# Altium schematic symbol library nRF52-Intro.SCHLIB: 84 symbols (part 2 of 2)
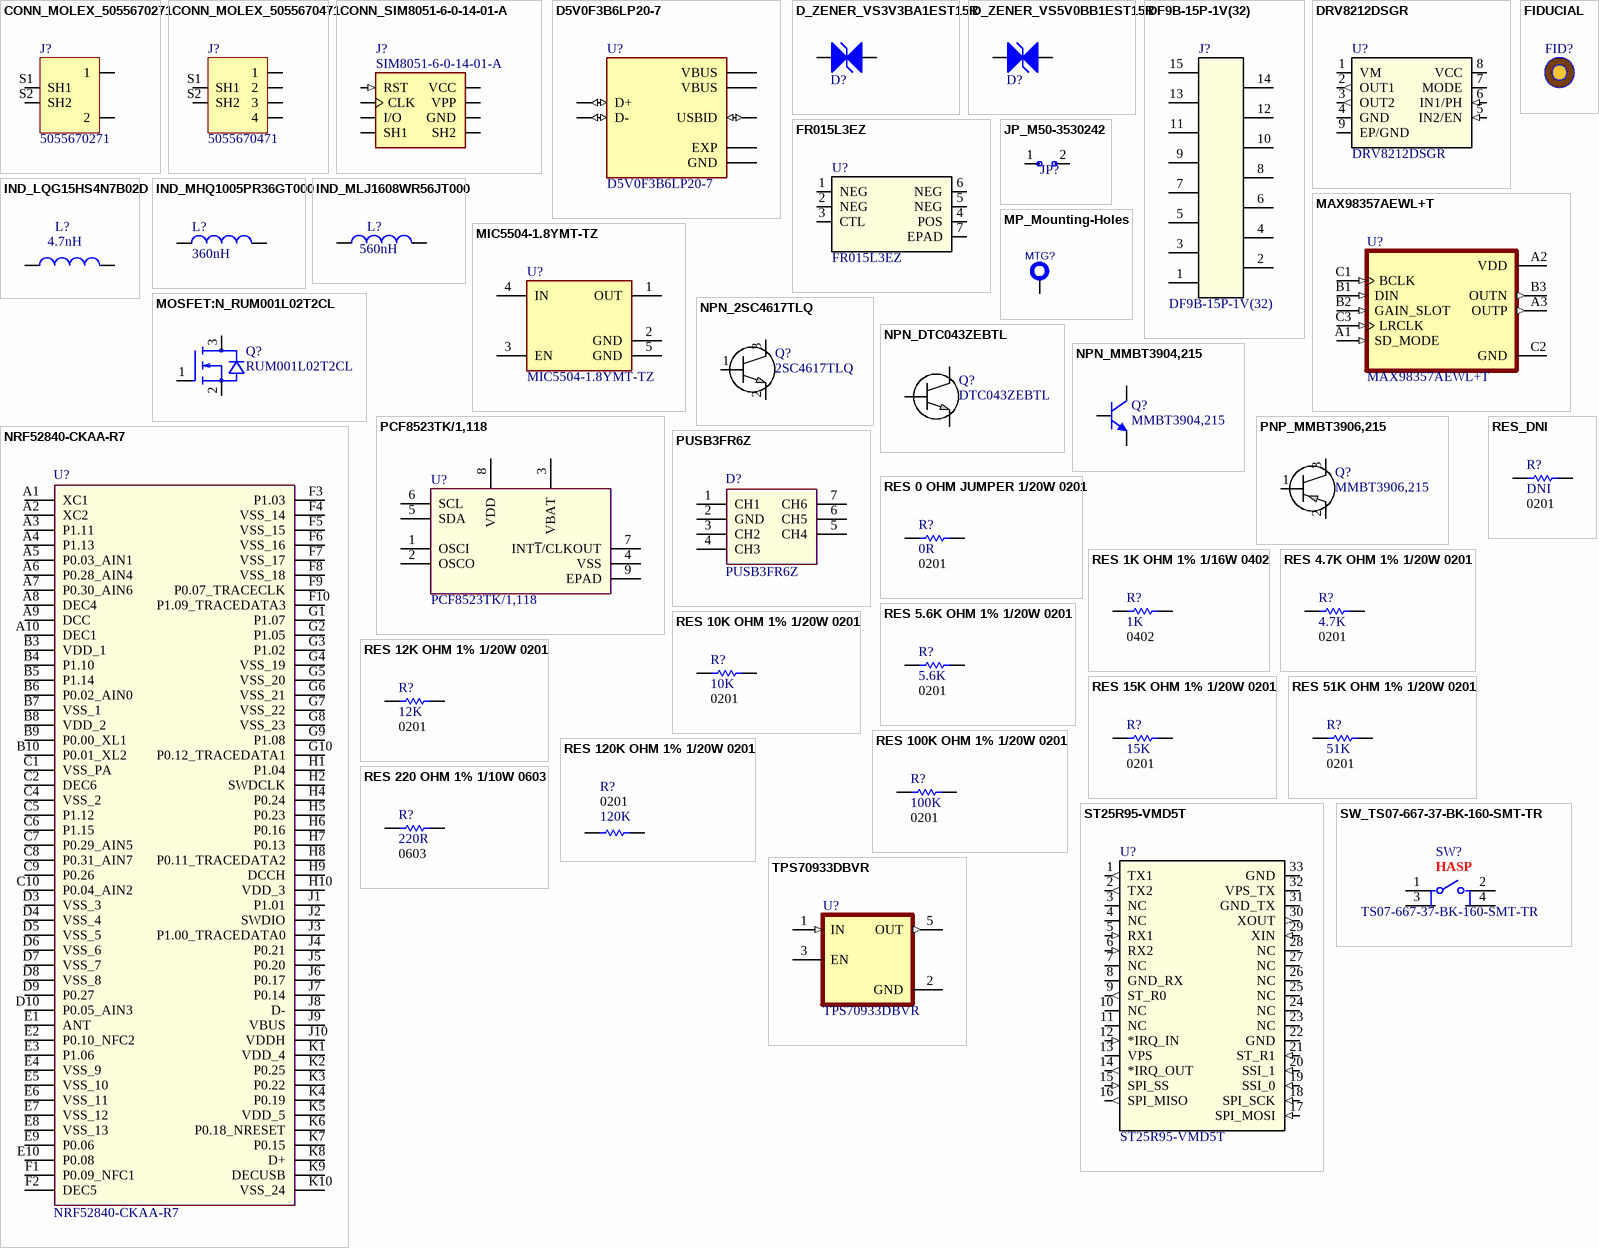
[diagram p3: symbols CONN_MOLEX_5055670271 to TPS70933DBVR]

## PUSB3FR6Z
designator D?
TVS DIODE 3.3VWM 3VC 7XSON; Manufacturer: Nexperia; Supplier 1: Digi-Key; Manufacturer Part Number: PUSB3FR6Z; RoHS: Yes; Category: ESD and Circuit Protection ICs; Stock 1: 39315; Pricing 1: 1=0.47000, 10=0.38500, 25=0.35200, 100=0.26190, 250=0.23732, 500=0.19640, 1000=0.14730 (USD); RoHS Compliant: Yes; Supplier Part Number 1: 1727-2027-1-ND
footprint PUSB3FR6Z
pins: 1 CH1, 2 GND, 3 CH2, 4 CH3, 5 CH4, 6 CH5, 7 CH6

## RES 0 OHM JUMPER 1/20W 0201
designator R?, comment 0R  Package: 0201
RES 0 OHM JUMPER 1/20W 0201; Manufacturer: Yageo; Manufacturer Part Number: RC0201JR-070RL; Supplier Part Number 1: 311-0.0NCT-ND; Height: 0.26mm; Supplier 1: Digi-Key; value: 0R
footprint RESC0603X26N
pins: 1, 2

## RES 1K OHM 1% 1/16W 0402
designator R?, comment 1K  Package: 0402
RES 1K OHM 1% 1/16W 0402; Manufacturer: Yageo; Manufacturer Part Number: RC0402FR-071KL; Supplier Part Number 1: 311-1.00KLRCT-ND; Height: 0.4mm; Supplier 1: Digi-Key; value: 1K
footprint RESC1005X40USR (Resistor, Chip; 1.00 mm L X 0.50 mm W X 0.40 mm H body)
pins: 1, 2

## RES 4.7K OHM 1% 1/20W 0201
designator R?, comment 4.7K  Package: 0201
RES 4.7K OHM 1% 1/20W 0201; Manufacturer: Yageo; Manufacturer Part Number: RC0201FR-074K7L; Supplier Part Number 1: 311-4.70KMCT-ND; Height: 0.26mm; Supplier 1: Digi-Key; value: 4.7K
footprint RESC0603X26N
pins: 1, 2

## RES 5.6K OHM 1% 1/20W 0201
designator R?, comment 5.6K  Package: 0201
RES 5.6K OHM 1% 1/20W 0201; Manufacturer: Yageo; Manufacturer Part Number: RC0201FR-075K6L; Supplier Part Number 1: YAG2346CT-ND; Height: 0.26mm; Supplier 1: Digi-Key; value: 5.6K
footprint RESC0603X26N
pins: 1, 2

## RES 10K OHM 1% 1/20W 0201
designator R?, comment 10K  Package: 0201
RES 10K OHM 1% 1/20W 0201; Manufacturer: Yageo; Manufacturer Part Number: RC0201FR-0710KL; Supplier Part Number 1: 311-10.0KMCT-ND; Height: 0.26mm; Supplier 1: Digi-Key; value: 10K
footprint RESC0603X26N
pins: 1, 2

## RES 12K OHM 1% 1/20W 0201
designator R?, comment 12K  Package: 0201
RES 12K OHM 1% 1/20W 0201; Manufacturer: Yageo; Manufacturer Part Number: RC0201FR-0712KL; Supplier Part Number 1: 311-12.0KMCT-ND; Height: 0.26mm; Supplier 1: Digi-Key; value: 12K
footprint RESC0603X26N
pins: 1, 2

## RES 15K OHM 1% 1/20W 0201
designator R?, comment 15K  Package: 0201
RES 15K OHM 1% 1/20W 0201; Manufacturer: Yageo; Manufacturer Part Number: RC0201FR-0715KL; Supplier Part Number 1: YAG2423CT-ND; Height: 0.26mm; Supplier 1: Digi-Key; value: 15K
footprint RESC0603X26N
pins: 1, 2

## RES 51K OHM 1% 1/20W 0201
designator R?, comment 51K  Package: 0201
RES 51K OHM 1% 1/20W 0201; Manufacturer: Yageo; Manufacturer Part Number: RC0201FR-0751KL; Supplier Part Number 1: 311-51.0KMCT-ND; Height: 0.26mm; Supplier 1: Digi-Key; value: 51K
footprint RESC0603X26N
pins: 1, 2

## RES 100K OHM 1% 1/20W 0201
designator R?, comment 100K  Package: 0201
RES 100K OHM 1% 1/20W 0201; Manufacturer: Yageo; Manufacturer Part Number: RC0201FR-07100KL; Supplier Part Number 1: 311-100KMCT-ND; Height: 0.26mm; Supplier 1: Digi-Key; value: 100K
footprint RESC0603X26N
pins: 1, 2

## RES 120K OHM 1% 1/20W 0201
designator R?, comment 120K  Package: 0201
RES 120K OHM 1% 1/20W 0201; Manufacturer: Yageo; Manufacturer Part Number: RC0201FR-07120KL; Supplier Part Number 1: 311-120KMCT-ND; Height: 0.26mm; Supplier 1: Digi-Key; value: 120K
footprint RESC0603X26N
pins: 1, 2

## RES 220 OHM 1% 1/10W 0603
designator R?, comment 220R  Package: 0603
RES 220 OHM 1% 1/10W 0603; Manufacturer: Yageo; Manufacturer Part Number: RC0603FR-07220RL; Supplier Part Number 1: 311-220HRCT-ND; Height: 0.55mm; Supplier 1: Digi-Key; value: 220R
footprint RESC1608X55N (Chip Capacitor, Body 1.6x0.8mm, IPC High Density)
pins: 1, 2

## RES_DNI
designator R?, comment DNI  Package: 0201
RES 0 OHM JUMPER 1/20W 0201; Manufacturer: Yageo; Manufacturer Part Number: RC0201JR-070RL; value: 0R; Supplier Part Number 1: 311-0.0NCT-ND; Height: 0.26mm; Supplier 1: Digi-Key
footprint RESC0603X26N
footprint RESC0603X26N
pins: 1, 2

## ST25R95-VMD5T
designator U?
NFC/RFID Tag and Reader 13.56MHz 2.7V to 5.5V 600uA 32-Pin VFQFPN T/R; Manufacturer: STMicroelectronics; Supplier 1: Digi-Key; Manufacturer Part Number: ST25R95-VMD5T; RoHS: Yes; Category: RF Receivers, Transceivers; Stock 1: 25628; Pricing 1: 1=4.07000, 10=3.63000, 25=3.26720, 100=2.97660, 250=2.68620, 500=2.54100 (USD); ComponentLink1URL: http://www.farnell.com/datasheets/2736711.pdf?src-supplier=Farnell; ComponentLink1Description: http://www.farnell.com/datasheets/2736711.pdf?src-supplier=Farnell; ComponentLink2URL: http://www.farnell.com/datasheets/2736711.pdf?src-supplier=Newark; ComponentLink2Description: http://www.farnell.com/datasheets/2736711.pdf?src-supplier=Newark; Supplier Part Number 1: 497-18487-1-ND
footprint VFQFPN32_5X5_STM
pins: 1 TX1 (out), 2 TX2 (out), 3 NC, 4 NC, 5 RX1 (in), 6 RX2 (in), 7 NC, 8 GND_RX, 9 ST_R0 (out), 10 NC, 11 NC, 12 *IRQ_IN (in), 13 VPS (power), 14 *IRQ_OUT (out), 15 SPI_SS (in), 16 SPI_MISO (out), 17 SPI_MOSI (in), 18 SPI_SCK (in), 19 SSI_0 (in), 20 SSI_1 (in), 21 ST_R1 (in), 22 GND, 23 NC, 24 NC, 25 NC, 26 NC, 27 NC, 28 NC, 29 XIN (in), 30 XOUT (out), 31 GND_TX, 32 VPS_TX (power), 33 GND

## SW_TS07-667-37-BK-160-SMT-TR
designator SW?, comment TS07-667-37-BK-160-SMT-TR  Parameter 1: HASP
Switch Tactile OFF (ON) SPST Round Button Gull Wing 0.05A 12VDC 80000Cycles 1.6N SMD T/R; Manufacturer: CUI Devices; Supplier 1: Digi-Key; Manufacturer Part Number: TS07-667-37-BK-160-SMT-TR; RoHS: No; Category: Tactile Switches; Stock 1: 2983; Pricing 1: 1=0.24000, 10=0.23100, 25=0.21960, 100=0.19870, 250=0.18112, 500=0.16836 (USD); Supplier Part Number 1: 2223-TS07-667-37-BK-160-SMT-TRCT-ND
footprint SW_TS07-667-37-BK-160-SMT-TR
pins: 1, 2, 3, 4

## TPS70933DBVR
designator U?
Linear Voltage Regulator IC Positive Fixed 1 Output 3.3V 150mA SOT-23-5; Manufacturer: Texas Instruments; Dropout Voltage: 960mV; Number of Outputs: 1; Min Input Voltage: 2.7V; Max Input Voltage: 30V; Min Current Limit: 200mA; Output Voltage Accuracy: 1%; Accuracy: 2%; Power Supply Rejection Ratio (PSRR): 80dB; Quiescent Current: 1uA; Supplier 1: Digi-Key; Manufacturer Part Number: TPS70933DBVR; RoHS: Yes; Category: Voltage Regulators - Linear; Stock 1: 84982; Pricing 1: 1=1.37000, 10=1.22300, 25=1.16040, 100=0.95330, 250=0.89108, 500=0.78748, 1000=0.62560 (USD); Mount: Surface Mount; Case/Package: SOT-23-5; Number of Pins: 5; Min Operating Temperature: -40°C; Max Operating Temperature: 125°C; Packaging: Tape and Reel; Output Voltage: 3.3V; Output Current: 150mA; Package Quantity: 1; Max Output Current: 150mA; Number of Regulators: 1; Polarity: Positive; Nominal Output Voltage: 3.3V; Output Type: Fixed; Series: -; Radiation Hardening: No; REACH SVHC: No SVHC; Lead Free: Lead Free; RoHS Compliant: Yes; ComponentLink1URL: https://datasheet.ciiva.com/6580/tps70933-6580912.pdf?src-supplier=Digi-Key; ComponentLink1Description: https://datasheet.ciiva.com/6580/tps70933-6580912.pdf?src-supplier=Digi-Key; ComponentLink2URL: https://datasheet.ciiva.com/6580/tps709-6580908.pdf?src-supplier=Digi-Key; ComponentLink2Description: https://datasheet.ciiva.com/6580/tps709-6580908.pdf?src-supplier=Digi-Key; ComponentLink3URL: https://datasheet.ciiva.com/6580/tps709-6580911.pdf?src-supplier=Digi-Key; ComponentLink3Description: https://datasheet.ciiva.com/6580/tps709-6580911.pdf?src-supplier=Digi-Key; Supplier Part Number 1: 296-35483-1-ND
footprint SOT23-5
pins: 1 IN (in), 2 GND (power), 3 EN, 5 OUT (out)

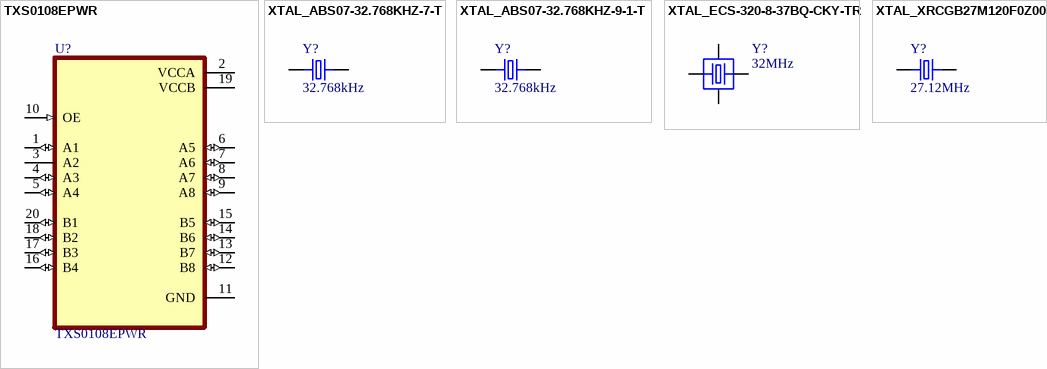
[diagram p2: symbols TXS0108EPWR to XTAL_XRCGB27M120F0Z00R0]

## TXS0108EPWR
designator U?
IC 8BIT NON-INV TRANSLTR 20TSSOP; Manufacturer: Texas Instruments; Data Rate: 60Mbps; Number of Bits: 8; High Level Output Current: -50mA; Propagation Delay: 4.8ns; Min Supply Voltage: 1.2V; Max Supply Voltage: 5.5V; Logic Function: Translator; Low Level Output Current: 50mA; Turn-On Delay Time: 312ns; Quiescent Current: 3uA; Output Current: 620uA; Output Type: Voltage; Rise Time: 6.3ns; Nominal Supply Current: 8uA; Supplier 1: RSComponents; Manufacturer Part Number: TXS0108EPWR; RoHS: Yes; Category: Voltage Level Shifters; Stock 1: 722; Pricing 1: 1=16.17000, 500=15.77000, 1000=15.53000 (HKD); Mount: Surface Mount; Case/Package: TSSOP; Number of Pins: 20; Weight: 0.002716oz; Contact Plating: Gold; Min Operating Temperature: -40°C; Max Operating Temperature: 85°C; Packaging: Tape and Reel; Number of Channels: 8; Package Quantity: 1; Number of Inputs: 8; Series: -; Termination: SMD/SMT; Supply Current: 8uA; Length: 6.5mm; Width: 4.4mm; Height: 1.15mm; Radiation Hardening: No; Lead Free: Lead Free; RoHS Compliant: Yes; REACH SVHC: No SVHC; ComponentLink1URL: https://datasheet.ciiva.com/14287/txs0108e-14287280.pdf?src-supplier=Farnell; ComponentLink1Description: https://datasheet.ciiva.com/14287/txs0108e-14287280.pdf?src-supplier=Farnell; ComponentLink2URL: https://datasheet.ciiva.com/28653/1714661-28653429.pdf?src-supplier=Element14; ComponentLink2Description: https://datasheet.ciiva.com/28653/1714661-28653429.pdf?src-supplier=Element14; ComponentLink3URL: https://datasheet.ciiva.com/4834/sces642b-127094-4834401.pdf?src-supplier=Mouser; ComponentLink3Description: https://datasheet.ciiva.com/4834/sces642b-127094-4834401.pdf?src-supplier=Mouser; ComponentLink4URL: https://datasheet.ciiva.com/15096/getdatasheetpartid-322119-15096276.pdf?src-supplier=Verical; ComponentLink4Description: https://datasheet.ciiva.com/15096/getdatasheetpartid-322119-15096276.pdf?src-supplier=Verical; ComponentLink5URL: https://datasheet.ciiva.com/1508/1815244-1508732.pdf?src-supplier=Element14; ComponentLink5Description: https://datasheet.ciiva.com/1508/1815244-1508732.pdf?src-supplier=Element14; ComponentLink6URL: https://datasheet.ciiva.com/1899/txs0108e-1899605.pdf?src-supplier=Digi-Key; ComponentLink6Description: https://datasheet.ciiva.com/1899/txs0108e-1899605.pdf?src-supplier=Digi-Key; ComponentLink7URL: https://datasheet.ciiva.com/1899/txs0108e-1899604.pdf?src-supplier=Digi-Key; ComponentLink7Description: https://datasheet.ciiva.com/1899/txs0108e-1899604.pdf?src-supplier=Digi-Key; ComponentLink8URL: https://datasheet.ciiva.com/1899/txs0108e-1899606.pdf?src-supplier=Digi-Key; ComponentLink8Description: https://datasheet.ciiva.com/1899/txs0108e-1899606.pdf?src-supplier=Digi-Key; ComponentLink9URL: https://datasheet.ciiva.com/14287/txs0108e-14287532.pdf?src-supplier=Avnet; ComponentLink9Description: https://datasheet.ciiva.com/14287/txs0108e-14287532.pdf?src-supplier=Avnet; Supplier Part Number 1: 7094639
footprint SOP65P640X120-20N
pins: 1 A1 (io), 2 VCCA (power), 3 A2, 4 A3 (io), 5 A4 (io), 6 A5 (io), 7 A6 (io), 8 A7 (io), 9 A8 (io), 10 OE (in), 11 GND (power), 12 B8 (io), 13 B7 (io), 14 B6 (io), 15 B5 (io), 16 B4 (io), 17 B3 (io), 18 B2 (io), 19 VCCB (power), 20 B1 (io)

## XTAL_ABS07-32.768KHZ-7-T
designator Y?, comment 32.768kHz
Crystal 0.032768MHz ±20ppm (Tol) 7pF Flexural 70000Ohm 2-Pin CSMD T/R; Manufacturer: Abracon; Manufacturer Part Number: ABS07-32.768KHZ-7-T; ESR (Equivalent Series Resistance): 70kR; Insulation Resistance: 500MR; Supplier 1: Digi-Key; RoHS: Yes; Category: Crystals; Stock 1: 994435; Pricing 1: 1=1.50000, 10=1.43600, 50=1.40240, 100=1.20200, 500=1.16864, 1000=0.98500 (USD); Mount: Surface Mount; Case/Package: CSMD; Number of Pins: 2; Min Operating Temperature: -40°C; Max Operating Temperature: 85°C; Package Quantity: 3000; Frequency: 32.768kHz; Frequency Tolerance: 20ppm; Load Capacitance: 7pF; Packaging: Tape and Reel; Length: 3.2mm; Width: 1.5mm; Height: 0.035inch; Lead Free: Lead Free; ComponentLink1URL: https://datasheet.ciiva.com/3174/abs07-3174144.pdf?src-supplier=Avnet; ComponentLink1Description: https://datasheet.ciiva.com/3174/abs07-3174144.pdf?src-supplier=Avnet; ComponentLink2URL: https://datasheet.ciiva.com/855/abs07-855945.pdf?src-supplier=Digi-Key; ComponentLink2Description: https://datasheet.ciiva.com/855/abs07-855945.pdf?src-supplier=Digi-Key; ComponentLink3URL: https://datasheet.ciiva.com/855/abs07-855946.pdf?src-supplier=Digi-Key; ComponentLink3Description: https://datasheet.ciiva.com/855/abs07-855946.pdf?src-supplier=Digi-Key; Supplier Part Number 1: 535-9543-1-ND; Tolerance: 20ppm; Frequency Stability: 20ppm; Termination: SMD/SMT; Series Resistance: 70kR; Series: ABS07; Operating Frequency: 32.768 kHz; Depth: 1.5mm; Radiation Hardening: No; REACH SVHC: No SVHC; ComponentLink4URL: https://datasheet.ciiva.com/855/abs07-855947.pdf?src-supplier=Digi-Key; ComponentLink4Description: https://datasheet.ciiva.com/855/abs07-855947.pdf?src-supplier=Digi-Key; ComponentLink5URL: https://datasheet.ciiva.com/8344/abs07-8344589.pdf?src-supplier=Avnet; ComponentLink5Description: https://datasheet.ciiva.com/8344/abs07-8344589.pdf?src-supplier=Avnet; ComponentLink6URL: https://datasheet.ciiva.com/16199/abs07-16199467.pdf?src-supplier=Future+Electronics; ComponentLink6Description: https://datasheet.ciiva.com/16199/abs07-16199467.pdf?src-supplier=Future+Electronics
footprint XTAL_3215
pins: 1 I/O, 2 O/I

## XTAL_ABS07-32.768KHZ-9-1-T
designator Y?, comment 32.768kHz
ABS07 Series 3.2 x 1.5 x 0.9 mm 32.768 KHz ±10ppm 9 pF -40 to 85°C Crystal SMT; Manufacturer: Abracon; Manufacturer Part Number: ABS07-32.768KHZ-9-1-T; Load Capacitance: 9pF; ESR (Equivalent Series Resistance): 70kR; Supplier 1: Mouser; RoHS: Yes; Category: Crystals; Stock 1: 54228; Pricing 1: 1=1.50000, 10=1.44000, 50=1.40000, 100=1.20000, 1000=0.98500, 10000=0.90100 (USD); Mount: Surface Mount; Case/Package: SMD/SMT; Min Operating Temperature: -40°C; Max Operating Temperature: 85°C; Package Quantity: 3000; Frequency: 32.768kHz; Frequency Tolerance: 10ppm; Packaging: Tape and Reel; Length: 0.126inch; Width: 0.061inch; Height: 0.035inch; Lead Free: Lead Free; RoHS Compliant: Yes; ComponentLink1URL: https://datasheet.ciiva.com/12389/abs07-11028-12389874.pdf?src-supplier=Mouser; ComponentLink1Description: https://datasheet.ciiva.com/12389/abs07-11028-12389874.pdf?src-supplier=Mouser; Supplier Part Number 1: 815-ABS07-32.7K9-1-T; Tolerance: 10ppm; Termination: SMD/SMT; Series: ABS07; Operating Frequency: 32.768 kHz
footprint XTAL_3215
pins: 1 I/O, 2 O/I

## XTAL_ECS-320-8-37BQ-CKY-TR
designator Y?, comment 32MHz
Crystal 32MHz 8pF ±10ppm ±10ppm 4-Pin Miniature CSMD T/R; Manufacturer: ECS International; Manufacturer Part Number: ECS-320-8-37BQ-CKY-TR; Supplier 1: Digi-Key; RoHS: No; Stock 1: 8978; Pricing 1: 1=0.57000, 10=0.47700, 50=0.42960, 100=0.38180, 500=0.36270 (USD); Supplier Part Number 1: 50-ECS-320-8-37BQ-CKY-CT-ND
footprint XTAL_2016_ECS_320
pins: 1 I/O, 2 GND, 3 O/I, 4 GND

## XTAL_XRCGB27M120F0Z00R0
designator Y?, comment 27.12MHz
Crystal 27.12MHz ±100ppm (Tol) ±100ppm (Stability) 6pF 150Ohm 4-Pin SMD T/R; MP: XRCGB27M120F0Z00R0; MF: Murata; Availability: In Stock; SnapEDA_Link: https://www.snapeda.com/parts/XRCGB27M120F0Z00R0/Murata/view-part/2462997/?ref=snap; Value: *; Check_prices: https://www.snapeda.com/parts/XRCGB27M120F0Z00R0/Murata/view-part/2462997/?ref=eda; Package: SMD-4 Murata; Price: None; Supplier 1: Mouser; Manufacturer: Murata; Manufacturer Part Number: XRCGB27M120F0Z00R0; RoHS: Yes; Category: Crystals; Stock 1: 3161; Pricing 1: 1=0.35000, 10=0.29500, 50=0.29500, 100=0.23600, 1000=0.18900, 10000=0.16100 (USD); Mount: Surface Mount; Case/Package: SMD/SMT; Min Operating Temperature: -40°C; Max Operating Temperature: 105°C; Frequency: 27.12MHz; Frequency Stability: 100ppm; Frequency Tolerance: 100ppm; Load Capacitance: 6pF; RoHS Compliant: Yes; ComponentLink1URL: http://www.mouser.com/ds/2/281/GRM31CR60J227ME11-01-779261.pdf?src-supplier=Mouser; ComponentLink1Description: http://www.mouser.com/ds/2/281/GRM31CR60J227ME11-01-779261.pdf?src-supplier=Mouser; ComponentLink2URL: https://www.murata.com/~/media/webrenewal/support/library/catalog/products/timingdevice/crystalu/p79e.ashx?la=en-us&src-supplier=Digi-Key; ComponentLink2Description: https://www.murata.com/~/media/webrenewal/support/library/catalog/products/timingdevice/crystalu/p79e.ashx?la=en-us&src-supplier=Digi-Key; Supplier Part Number 1: 81-XRCGB27M120F0Z0R0
footprint XTAL_2016_MURATA_XRCGB
pins: 1, 3